# EAGLE library part DF12-20DS (library tribesat)
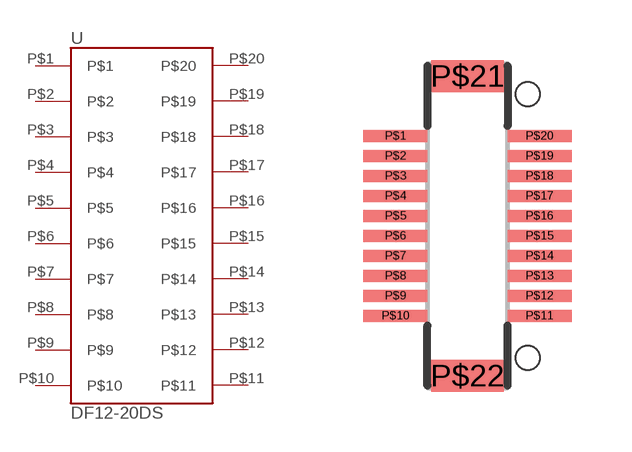
[diagram p0: symbol with the pads of DF12(3.0)-20DS-0.5V(86); footprint DF12(3.0)-20DS-0.5V(86)]

Designator prefix -

## DF12-20DS  [DF12(3.0)-20DS-0.5V(86)]
P$1  P$1
P$2  P$2
P$3  P$3
P$4  P$4
P$5  P$5
P$6  P$6
P$7  P$7
P$8  P$8
P$9  P$9
P$10  P$10
P$11  P$11
P$12  P$12
P$13  P$13
P$14  P$14
P$15  P$15
P$16  P$16
P$17  P$17
P$18  P$18
P$19  P$19
P$20  P$20

## Footprint DF12(3.0)-20DS-0.5V(86) (pad centres in mm)
smd 1.6 x 0.3: P$1 -1.8,2.25; P$2 -1.8,1.75; P$3 -1.8,1.25; P$4 -1.8,0.75; P$5 -1.8,0.25; P$6 -1.8,-0.25; P$7 -1.8,-0.75; P$8 -1.8,-1.25; P$9 -1.8,-1.75; P$10 -1.8,-2.25; P$11 1.8,-2.25; P$12 1.8,-1.75; P$13 1.8,-1.25; P$14 1.8,-0.75; P$15 1.8,-0.25; P$16 1.8,0.25; P$17 1.8,0.75; P$18 1.8,1.25; P$19 1.8,1.75; P$20 1.8,2.25
smd 1.8 x 0.8: P$21 0,3.75; P$22 0,-3.75
hole 0.6 at 1.5,3.3
hole 0.6 at 1.5,-3.3